# Altium schematic symbol library Button.SchLib: 9 symbols
Pins are listed as number, name and electrical type; pins without a type are passive.

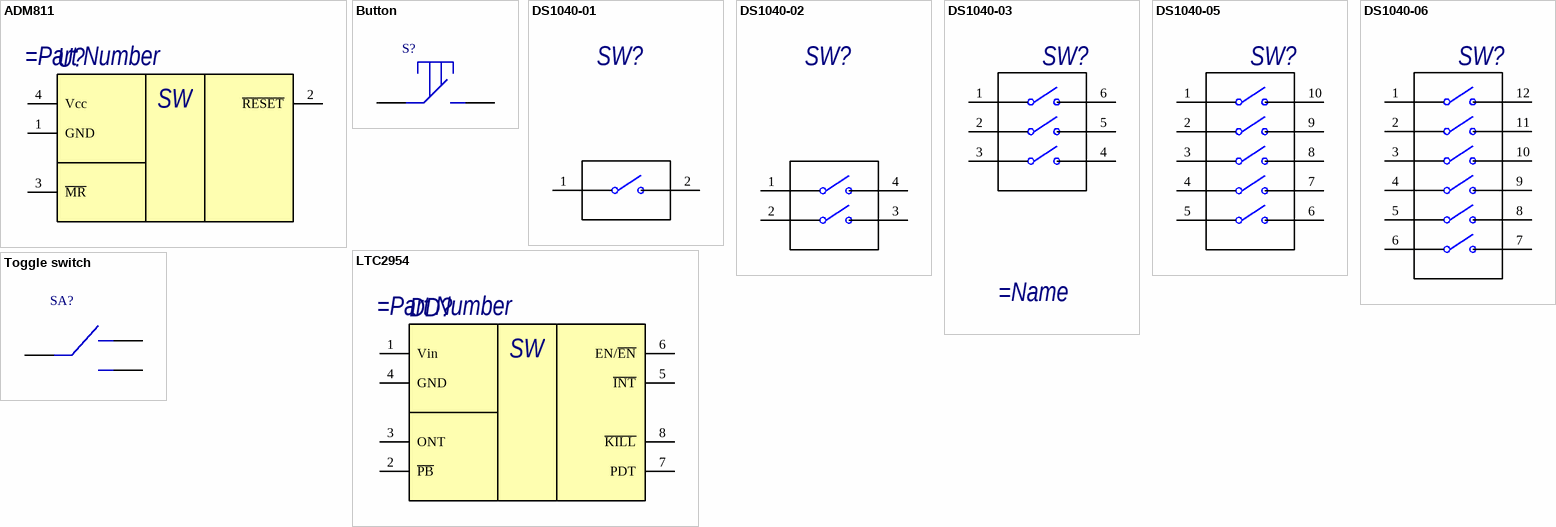
[diagram p0: symbols ADM811 to Toggle switch]

## ADM811
designator U?
Microprocessor Supervisory / Circuit
pins: 1 GND, 2 ~{RESET}, 3 ~{MR}, 4 Vcc
text: SW

## Button
designator S?
Кнопка
pins: 1, 4

## DS1040-01
designator SW?
DIP переключатель
pins: 1, 2

## DS1040-02
designator SW?
DIP переключатель
pins: 1, 2, 3, 4

## DS1040-03
designator SW?
DIP переключатель адреса
pins: 1, 2, 3, 4, 5, 6

## DS1040-05
designator SW?
DIP переключатель
pins: 1, 2, 3, 4, 5, 6, 7, 8, 9, 10

## DS1040-06
designator SW?
DIP переключатель
pins: 1, 2, 3, 4, 5, 6, 7, 8, 9, 10, 11, 12

## LTC2954
designator DD?
Pushbutton On/Off Controller with µP Interrupt
pins: 1 Vin, 2 ~{PB}, 3 ONT, 4 GND, 5 ~{INT}, 6 EN/~{EN}, 7 PDT, 8 ~{KILL}
text: SW

## Toggle switch
designator SA?
переключатель однопозиционный
pins: 1, 2, 3